# EAGLE library part JS102011JAQN (library dpx-SWITCH)
C & K COMPONENTS - JS102011JAQN - SLIDE SWITCH, SPDT, 0.3A, 6VDC, SMD Source: Datasheet
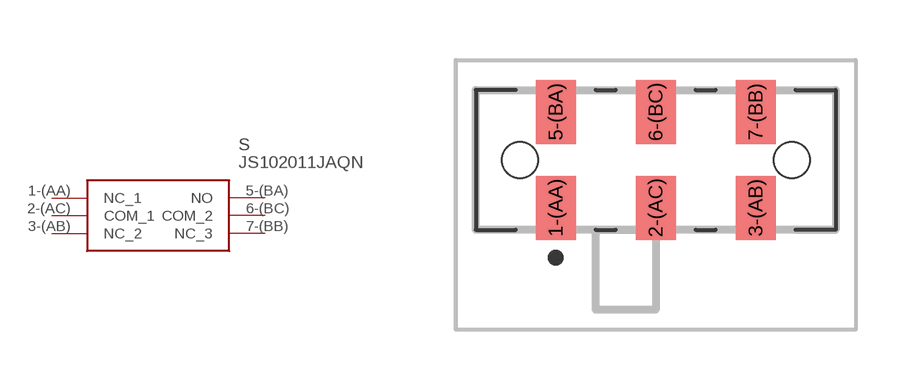
[diagram p0: symbol with the pads of SW-SMD-JS102011JAQN; footprint SW-SMD-JS102011JAQN]

Designator prefix S

## JS102011JAQN (DESCRIPTION: C & K COMPONENTS - JS102011JAQN - SLIDE SWITCH, SPDT, 0.3A, 6VDC, SMD; HEIGHT: 3.5mm; MANUFACTURER_NAME: C & K COMPONENTS; MANUFACTURER_PART_NUMBER: JS102011JAQN; MOUSER_PART_NUMBER: 611-JS102011JAQN; MOUSER_PRICE-STOCK: https://www.mouser.co.uk/ProductDetail/CK/JS102011JAQN?qs=74EMXstkWMXlgU381lCnfQ%3D%3D)  [SW-SMD-JS102011JAQN]
1-(AA)  NC_1
2-(AC)  COM_1
3-(AB)  NC_2
5-(BA)  NO
6-(BC)  COM_2
7-(BB)  NC_3

## Footprint SW-SMD-JS102011JAQN (pad centres in mm)
JS102011JAQN-2
smd 1 x 1.6: 1-(AA) -2.5,-1.2; 2-(AC) 0,-1.2; 3-(AB) 2.5,-1.2; 5-(BA) -2.5,1.2; 6-(BC) 0,1.2; 7-(BB) 2.5,1.2
hole 0.9 at -3.4,0
hole 0.9 at 3.4,0